# Altium schematic symbol library D12.5_H20_P5.08mm_CAP_THT.SchLib: 1 symbol
Pins are listed as number, name and electrical type; pins without a type are passive.

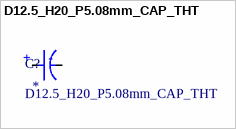
[diagram p0: symbol D12.5_H20_P5.08mm_CAP_THT]

## D12.5_H20_P5.08mm_CAP_THT
designator C?
D12.5 x H20, P5.08mm_Aluminum Electrolytic Capacitor ROHS; LCSC: *
footprint D12.5_H20_P5.08mm_CAP_THT
pins: 1 +, 2 -